# Altium footprint library PyESPCar_Z1.PcbLib: 22 footprints (part 2 of 2)
Each footprint in its own frame and in the unit in brackets; x right, y up, seen from the top. Pads: shape width x height; smd on the part's side, far side on the other; paste and mask are expansions set on the pad; w line width, h text height; cw(c..) or ccw(c..) is an arc to the next point about the centre after c.
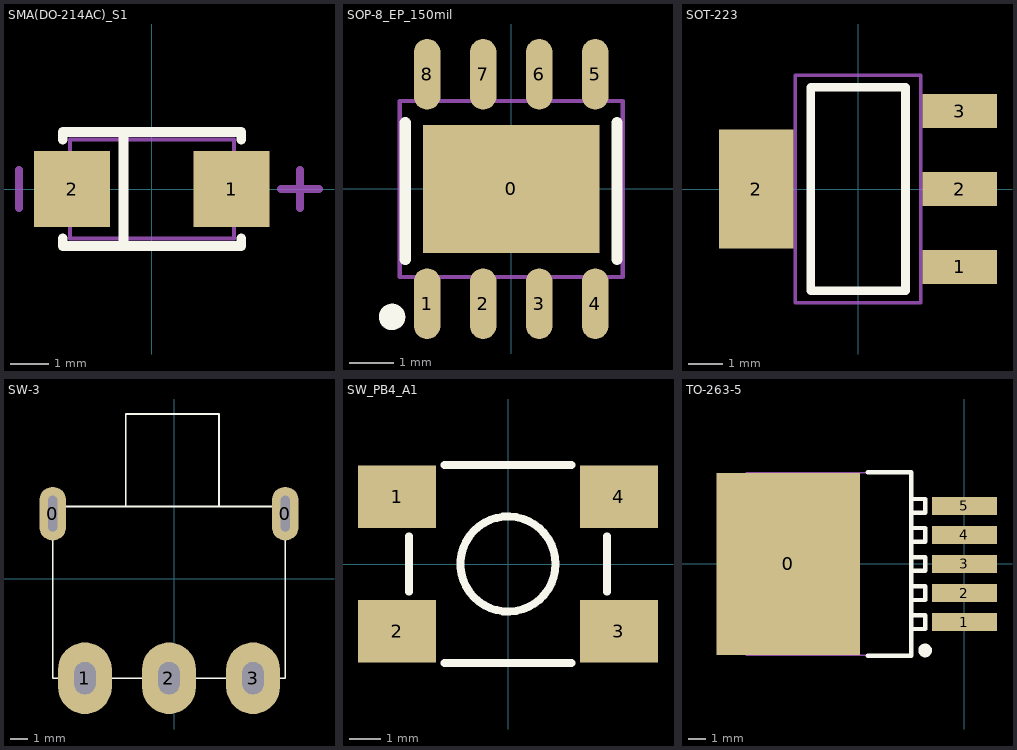
[diagram p1: the footprints below, top view; thin cyan lines are the x and y axes]

## SMA(DO-214AC)_S1 [mm]
pads (2):
  rect 2x2 smd: 1(2.1,0) 2(-2.1,0)
Top Overlay:
  lines w0.254: -2.35,-1.3 -2.35,-1.5 2.35,-1.5 2.35,-1.3 ; -2.35,1.3 -2.35,1.5 2.35,1.5 2.35,1.3 ; -0.75,-1.5 -0.75,1.5
Mechanical 13:
  lines w0.1: -2.16,-1.3 -2.16,1.3 2.16,1.3 2.16,-1.3 -2.16,-1.3
Mechanical 15:
  lines w0.203: -3.5,-0.5 -3.5,0.5 ; 3.4,0 4.4,0 ; 3.9,-0.5 3.9,0.5

## SOP-8_EP_150mil [mm]
pads (9):
  rect 4x2.9 smd: 0(0,0)
  oval 0.6x1.6 smd: 1(-1.905,-2.6) 2(-0.635,-2.6) 3(0.635,-2.6) 4(1.905,-2.6) 5(1.905,2.6) 6(0.635,2.6) 7(-0.635,2.6) 8(-1.905,2.6)
Top Overlay:
  circle w0.3: c-2.7,-2.9 r0.15
  lines w0.254: -2.4,-1.6 -2.4,1.5 ; 2.4,-1.6 2.4,1.5
Mechanical 13:
  lines w0.1: -2.525,-1.995 2.525,-1.995 2.525,1.995 -2.525,1.995 -2.525,-1.995

## SOT-223 [mm]
pads (4):
  rect 2.2x1 smd: 1(3,-2.3) 2(3,0) 3(3,2.3)
  rect 2.2x3.5 smd: 2(-3,0)
Top Overlay:
  lines w0.254: -1.4,-3 -1.4,3 1.4,3 1.4,-3 -1.4,-3
Mechanical 13:
  lines w0.1: -1.85,-3.35 1.85,-3.35 1.85,3.35 -1.85,3.35 -1.85,-3.35
3D body "TO-223.STEP": height 1.64, standoff -0.04, extent -3.49,-3.242 3.49,3.243

## SW-3 [mm]
pads (5):
  oval 1.5x3 hole 0.5 slot 2 at 90 deg: 0(-6.784,3.649) 0(6.216,3.649)
  oval 3x4 hole 1.2 slot 1.8 at 90 deg: 1(-4.984,-5.551) 2(-0.284,-5.551) 3(4.416,-5.551)
Top Overlay:
  lines w0.1: -2.698,4.05 -2.698,9.219 2.509,9.219 2.509,4.076 ; -6.784,-5.551 6.216,-5.551 6.216,4.05 -6.784,4.05 -6.784,-5.551

## SW_PB4_A1 [mm]
pads (4):
  rect 2.5x2 smd: 1(-3.556,2.159) 2(-3.556,-2.159) 3(3.556,-2.159) 4(3.556,2.159)
Top Overlay:
  circle w0.254: c0,0 r1.524
  lines w0.25: -3.175,-0.889 -3.175,0.889 ; -2.032,-3.175 2.032,-3.175 ; -2.032,3.175 2.032,3.175 ; 3.175,-0.889 3.175,0.889
3D body: height 6, standoff 0, extent -1.524,-1.524 1.524,1.524
3D body: height 1.5, standoff 0, extent -3.175,-3.175 3.175,3.175

## TO-263-5 [mm]
pads (6):
  rect 8.4x10.65 smd: 0(-10.3,0)
  rect 3.8x1.05 smd: 1(0,-3.4) 2(0,-1.7) 3(0,0) 4(0,1.7) 5(0,3.4)
Top Overlay:
  circle w0.4: c-2.3,-5.05 r0.2
  lines w0.254: -5.65,-5.35 -3.1,-5.35 -3.1,5.35 -5.65,5.35 ; -3.1,-3 -2.3,-3 -2.3,-3.8 -3,-3.8 ; -3.1,-1.3 -2.3,-1.3 -2.3,-2.1 -3,-2.1 ; -3.1,0.4 -2.3,0.4 -2.3,-0.4 -3,-0.4 ; -3.1,2.1 -2.3,2.1 -2.3,1.3 -3,1.3 ; -3.1,3.8 -2.3,3.8 -2.3,3 -3,3
Mechanical 13:
  lines w0.1: -12.75,-5.325 -3.1,-5.325 -3.1,5.325 -12.75,5.325 -12.75,-5.325